# Altium schematic symbol library auto_threader_lib.SchLib: 22 symbols (part 1 of 2)
Pins are listed as number, name and electrical type; pins without a type are passive.

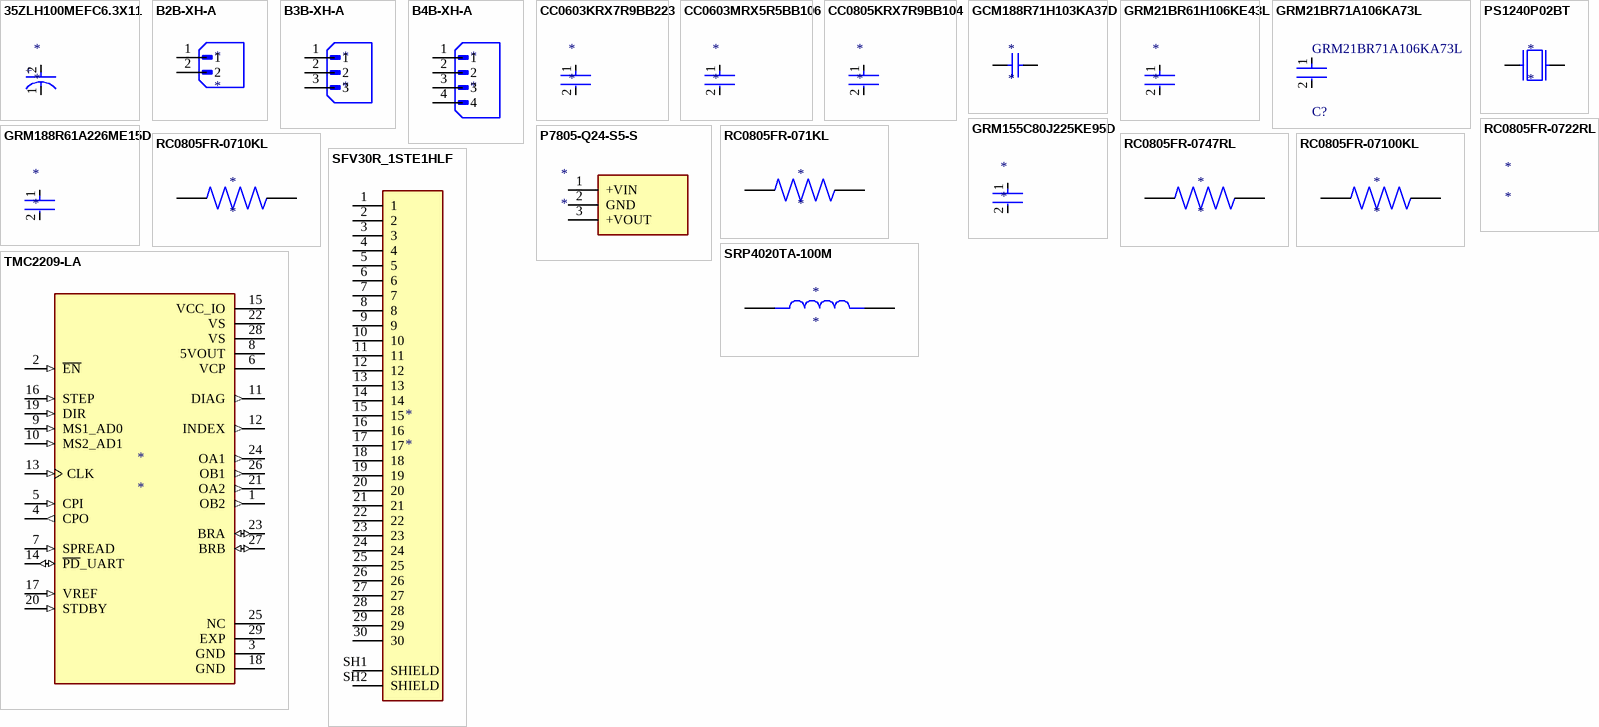
[diagram p0: symbols 35ZLH100MEFC6.3X11 to TMC2209-LA]

## 35ZLH100MEFC6.3X11
designator *
Aluminum Electrolytic Capacitors-DIP DIP, D6.3xL11mm 100μF ±20% 35V 94mΩ 540mA 6000Hrs@105℃; Manufacturer: Rubycon; Manufacturer Part Number: 35ZLH100MEFC6.3X11; Dielectric Material: Aluminium; Dissipation Factor: 12%; Lead Diameter: 500µm; Leakage Current: 35µA; Life (Hours): 6000hours; Ripple Current: 270mA; Supplier: DigiKey; Supplier Part Number: 1189-1300-ND; RoHS: Compliant; Category: Aluminum Electrolytic Capacitors; Stock: 118937; Pricing: 1=0.33, 10=0.203, 50=0.148, 100=0.1304, 500=0.09992, 2000=0.08229, 4000=0.07562, 6000=0.07225 (USD); Value: 100µF; Case/Package: Radial; Country of Origin: Japan; Diameter: 6.3mm; Export Control Classification Number (ECCN) Code: EAR99; Height: 12.5mm; Height - Seated (Max): 12.4968mm; Harmonized Tariff Schedule (HTS) Code: 8532.22.00.20; Impedance: 94mΩ; Introduction Date: 2010-09-20; Lead Pitch: 2.5mm; Length: 11mm; Lifecycle Status: Production; Max Operating Temperature: 105°C; Min Operating Temperature: -40°C; Mounting Technology: Through Hole; Pins: 2; Number of Terminals: 2; Packaging: Bulk; Radiation Hardening: No; REACH SVHC: Yes; Ripple Current (AC): 540mA; Schedule B: 8532220020, 8532220020|8532220020|8532220020|8532220020|8532220020|8532220020|8532220020|8532220020|8532220020|8532220020|8532220020|8532220020|8532220020|8532220020|8532220020|8532220020|8532220020|8532220020|8532220020|8532220020|8532220020|8532220020|8532220020|85; Terminal Pitch: 2.5mm; Termination: Radial; Tolerance: 20%; Voltage: 35V; Voltage Rating: 35V; Voltage Rating (AC): 35V; Voltage Rating (DC): 35V; ComponentLink1URL: https://datasheet.octopart.com:443/35ZLH100MEFC6.3X11-Rubycon-datasheet-181960486.pdf?src-supplier=IHS; ComponentLink1Description: https://datasheet.octopart.com:443/35ZLH100MEFC6.3X11-Rubycon-datasheet-181960486.pdf?src-supplier=IHS; ComponentLink2URL: https://datasheet.octopart.com:443/35ZLH100MEFC6.3X11-Rubycon-datasheet-12510202.pdf?src-supplier=LKR; ComponentLink2Description: https://datasheet.octopart.com:443/35ZLH100MEFC6.3X11-Rubycon-datasheet-12510202.pdf?src-supplier=LKR; ComponentLink3URL: https://datasheet.octopart.com:443/35ZLH100MEFC6.3X11-Rubycon-datasheet-154841597.pdf?src-supplier=JRH+Electronics; ComponentLink3Description: https://datasheet.octopart.com:443/35ZLH100MEFC6.3X11-Rubycon-datasheet-154841597.pdf?src-supplier=JRH+Electronics; ComponentLink4URL: https://datasheet.octopart.com:443/35ZLH100MEFC6.3X11-Rubycon-datasheet-66579747.pdf?src-supplier=Newark; ComponentLink4Description: https://datasheet.octopart.com:443/35ZLH100MEFC6.3X11-Rubycon-datasheet-66579747.pdf?src-supplier=Newark; ComponentLink5URL: https://datasheet.octopart.com:443/35ZLH100MEFC6.3X11-Rubycon-datasheet-41194731.pdf?src-supplier=Newark; ComponentLink5Description: https://datasheet.octopart.com:443/35ZLH100MEFC6.3X11-Rubycon-datasheet-41194731.pdf?src-supplier=Newark; ComponentLink6URL: https://datasheet.octopart.com:443/35ZLH100MEFC6.3X11-Rubycon-datasheet-10030022.pdf?src-supplier=element14+APAC; ComponentLink6Description: https://datasheet.octopart.com:443/35ZLH100MEFC6.3X11-Rubycon-datasheet-10030022.pdf?src-supplier=element14+APAC; ComponentLink7URL: https://datasheet.octopart.com:443/35ZLH100MEFC6.3X11-Rubycon-datasheet-8493648.pdf?src-supplier=element14+APAC; ComponentLink7Description: https://datasheet.octopart.com:443/35ZLH100MEFC6.3X11-Rubycon-datasheet-8493648.pdf?src-supplier=element14+APAC; ComponentLink8URL: https://datasheet.octopart.com:443/35ZLH100MEFC6.3X11-Rubycon-datasheet-7128063.pdf?src-supplier=element14+APAC; ComponentLink8Description: https://datasheet.octopart.com:443/35ZLH100MEFC6.3X11-Rubycon-datasheet-7128063.pdf?src-supplier=element14+APAC; ComponentLink9URL: https://datasheet.octopart.com:443/35ZLH100MEFC6.3X11-Rubycon-datasheet-86451566.pdf?src-supplier=Master+Electronics; ComponentLink9Description: https://datasheet.octopart.com:443/35ZLH100MEFC6.3X11-Rubycon-datasheet-86451566.pdf?src-supplier=Master+Electronics; Supplier 1: DigiKey; Supplier Part Number 1: 1189-1300-ND
footprint 35ZLH100MEFC6.3X11
pins: 1 C, 2 A
text: +

## B2B-XH-A
designator *
Supplier 1: DigiKey; Supplier Part Number 1: 455-B2B-XH-A-ND
footprint B2B-XH-A
pins: 1, 2

## B3B-XH-A
designator *
Board Connector, 3 Contact(s), 1 Row(s), Male, Straight, 0.098 inch Pitch, Solder Terminal; Manufacturer: JST; Manufacturer Part Number: B3B-XH-A; Contact Resistance: 20mΩ; Current Rating: 3A; Insulation Resistance: 1GΩ; Number of Contacts: 3; Voltage Rating: 250V; Supplier: DigiKey; Supplier Part Number: 455-2248-ND; RoHS: Compliant; Category: Card Edge Connectors; Stock: 22627; Pricing: 1=0.13, 10=0.108, 100=0.0915, 500=0.08162, 1000=0.07771, 5000=0.06936, 10000=0.06604 (USD); Color: White; Contact Material: Tin; Export Control Classification Number (ECCN) Code: EAR99; Gender: Male; Height: 7mm; Housing Material: Nylon; Harmonized Tariff Schedule (HTS) Code: 8536.69.40.40; Introduction Date: 1997-11-01; Lifecycle Status: Production; Max Operating Temperature: 85°C; Min Operating Temperature: -25°C; Pins: 3; Number of Positions: 3; Number of Rows: 1; Orientation: Straight; Terminal Pitch: 2.5mm; ComponentLink1URL: https://datasheet.octopart.com:443/B3B-XH-A-JST-datasheet-12510042.pdf?src-supplier=Upverter; ComponentLink1Description: https://datasheet.octopart.com:443/B3B-XH-A-JST-datasheet-12510042.pdf?src-supplier=Upverter; ComponentLink2URL: https://datasheet.octopart.com:443/B3B-XH-A-JST-datasheet-157850277.pdf?src-supplier=IHS; ComponentLink2Description: https://datasheet.octopart.com:443/B3B-XH-A-JST-datasheet-157850277.pdf?src-supplier=IHS; ComponentLink3URL: https://datasheet.octopart.com:443/B3B-XH-A-JST-datasheet-10026044.pdf?src-supplier=TME; ComponentLink3Description: https://datasheet.octopart.com:443/B3B-XH-A-JST-datasheet-10026044.pdf?src-supplier=TME; Supplier 1: DigiKey; Supplier Part Number 1: 455-2248-ND
footprint B3B-XH-A
pins: 1, 2, 3

## B4B-XH-A
designator *
Supplier 1: DigiKey; Supplier Part Number 1: 455-B4B-XH-A-ND
footprint B4B-XH-A
pins: 1, 2, 3, 4

## CC0603KRX7R9BB223
designator *
Surface Mount Ceramic Multilayer Capacitor 0.022uF 10% X7R 50V 0603 Paper T/R; Manufacturer: Yageo Group; Manufacturer Part Number: CC0603KRX7R9BB223; Value: 22nF; Insulation Resistance: 100GΩ; Supplier: DigiKey; Supplier Part Number: 311-1370-1-ND; RoHS: Compliant; Category: Ceramic Capacitors; Stock: 1263; Pricing: 1=0.1, 10=0.042, 50=0.0288, 100=0.0247, 500=0.01782, 1000=0.0157 (USD); Case/Package: 0603; Case Code (Imperial): 0603; Case Code (Metric): 1608; China RoHS: Compliant; Composition: Ceramic; Country of Origin: Mainland China, Taiwan; Depth: 800µm; Dielectric: X7R; Dielectric Material: Ceramic; Export Control Classification Number (ECCN) Code: EAR99; Halogen Free: Halogen Free; Height: 800µm; Harmonized Tariff Schedule (HTS) Code: 8532.24.00.20; Introduction Date: 2003-01-27; Lead Free: Lead Free; Length: 1.6mm; Lifecycle Status: Production; Material: Ceramic; Max Operating Temperature: 125°C; Min Operating Temperature: -55°C; Mounting Technology: Surface Mount; Pins: 2; Number of Terminals: 2; Packaging: Cut Tape (CT); Radiation Hardening: No; REACH SVHC: Yes; Schedule B: 8532240020, 8532240020|8532240020, 8532240020|8532240020|8532240020, 8532240020|8532240020|8532240020|8532240020; Termination: SMD/SMT; Thickness: 889µm; Tolerance: 10%; Voltage: 50V; Voltage Rating: 50V; Voltage Rating (AC): 50V; Voltage Rating (DC): 50V; Width: 800µm; ComponentLink1URL: https://datasheet.octopart.com:443/CC0603KRX7R9BB223-Yageo-datasheet-177165144.pdf?src-supplier=IHS; ComponentLink1Description: https://datasheet.octopart.com:443/CC0603KRX7R9BB223-Yageo-datasheet-177165144.pdf?src-supplier=IHS; ComponentLink2URL: https://datasheet.octopart.com/CC0603KRX7R9BB223-Yageo-datasheet-10883670.pdf; ComponentLink2Description: https://datasheet.octopart.com/CC0603KRX7R9BB223-Yageo-datasheet-10883670.pdf; ComponentLink3URL: https://datasheet.octopart.com:443/CC0603KRX7R9BB223-Yageo-datasheet-147453679.pdf?src-supplier=Newark; ComponentLink3Description: https://datasheet.octopart.com:443/CC0603KRX7R9BB223-Yageo-datasheet-147453679.pdf?src-supplier=Newark; ComponentLink4URL: https://datasheet.octopart.com:443/CC0603KRX7R9BB223-Yageo-datasheet-499490.pdf?src-supplier=Newark; ComponentLink4Description: https://datasheet.octopart.com:443/CC0603KRX7R9BB223-Yageo-datasheet-499490.pdf?src-supplier=Newark; ComponentLink5URL: https://datasheet.octopart.com:443/CC0603KRX7R9BB223-Yageo-datasheet-5301394.pdf?src-supplier=Newark; ComponentLink5Description: https://datasheet.octopart.com:443/CC0603KRX7R9BB223-Yageo-datasheet-5301394.pdf?src-supplier=Newark; ComponentLink6URL: https://sigma.octopart.com:443/147830939/technical_drawing/Yageo-CC0603KRX7R9BB223.pdf?src-supplier=Upverter; ComponentLink6Description: https://sigma.octopart.com:443/147830939/technical_drawing/Yageo-CC0603KRX7R9BB223.pdf?src-supplier=Upverter; ComponentLink7URL: https://datasheet.octopart.com:443/CC0603KRX7R9BB223-Yageo-datasheet-82288757.pdf?src-supplier=Upverter; ComponentLink7Description: https://datasheet.octopart.com:443/CC0603KRX7R9BB223-Yageo-datasheet-82288757.pdf?src-supplier=Upverter; ComponentLink8URL: https://datasheet.octopart.com:443/CC0603KRX7R9BB223-Yageo-datasheet-62139192.pdf?src-supplier=Upverter; ComponentLink8Description: https://datasheet.octopart.com:443/CC0603KRX7R9BB223-Yageo-datasheet-62139192.pdf?src-supplier=Upverter; ComponentLink9URL: https://datasheet.octopart.com:443/CC0603KRX7R9BB223-Yageo-Group-datasheet-189192896.pdf?src-supplier=Future+Electronics; ComponentLink9Description: https://datasheet.octopart.com:443/CC0603KRX7R9BB223-Yageo-Group-datasheet-189192896.pdf?src-supplier=Future+Electronics; ComponentLink10URL: https://datasheet.octopart.com:443/CC0603KRX7R9BB223-Yageo-datasheet-166511530.pdf?src-supplier=Future+Electronics; ComponentLink10Description: https://datasheet.octopart.com:443/CC0603KRX7R9BB223-Yageo-datasheet-166511530.pdf?src-supplier=Future+Electronics; ComponentLink11URL: https://datasheet.octopart.com:443/CC0603KRX7R9BB223-Yageo-datasheet-137700082.pdf?src-supplier=Future+Electronics; ComponentLink11Description: https://datasheet.octopart.com:443/CC0603KRX7R9BB223-Yageo-datasheet-137700082.pdf?src-supplier=Future+Electronics; ComponentLink12URL: https://datasheet.octopart.com:443/CC0603KRX7R9BB223-Yageo-datasheet-137700084.pdf?src-supplier=Future+Electronics; ComponentLink12Description: https://datasheet.octopart.com:443/CC0603KRX7R9BB223-Yageo-datasheet-137700084.pdf?src-supplier=Future+Electronics; ComponentLink13URL: https://datasheet.octopart.com:443/CC0603KRX7R9BB223-Yageo-datasheet-15895757.pdf?src-supplier=Future+Electronics; ComponentLink13Description: https://datasheet.octopart.com:443/CC0603KRX7R9BB223-Yageo-datasheet-15895757.pdf?src-supplier=Future+Electronics; ComponentLink14URL: https://datasheet.octopart.com:443/CC0603KRX7R9BB223-Yageo-datasheet-12526321.pdf?src-supplier=Future+Electronics; ComponentLink14Description: https://datasheet.octopart.com:443/CC0603KRX7R9BB223-Yageo-datasheet-12526321.pdf?src-supplier=Future+Electronics; ComponentLink15URL: https://datasheet.octopart.com:443/CC0603KRX7R9BB223-Yageo-datasheet-8324192.pdf?src-supplier=Future+Electronics; ComponentLink15Description: https://datasheet.octopart.com:443/CC0603KRX7R9BB223-Yageo-datasheet-8324192.pdf?src-supplier=Future+Electronics; ComponentLink16URL: https://datasheet.octopart.com:443/CC0603KRX7R9BB223-Yageo-datasheet-62336348.pdf?src-supplier=Farnell; ComponentLink16Description: https://datasheet.octopart.com:443/CC0603KRX7R9BB223-Yageo-datasheet-62336348.pdf?src-supplier=Farnell; ComponentLink17URL: https://datasheet.octopart.com:443/CC0603KRX7R9BB223-Yageo-datasheet-151948686.pdf?src-supplier=Farnell; ComponentLink17Description: https://datasheet.octopart.com:443/CC0603KRX7R9BB223-Yageo-datasheet-151948686.pdf?src-supplier=Farnell; ComponentLink18URL: https://datasheet.octopart.com:443/CC0603KRX7R9BB223-Yageo-datasheet-500777.pdf?src-supplier=Farnell; ComponentLink18Description: https://datasheet.octopart.com:443/CC0603KRX7R9BB223-Yageo-datasheet-500777.pdf?src-supplier=Farnell; ComponentLink19URL: https://datasheet.octopart.com:443/CC0603KRX7R9BB223-Yageo-datasheet-27626582.pdf?src-supplier=Seeed+Studio; ComponentLink19Description: https://datasheet.octopart.com:443/CC0603KRX7R9BB223-Yageo-datasheet-27626582.pdf?src-supplier=Seeed+Studio; ComponentLink20URL: https://datasheet.octopart.com:443/CC0603KRX7R9BB223-Yageo-datasheet-178019131.pdf?src-supplier=Burklin+Elektronik; ComponentLink20Description: https://datasheet.octopart.com:443/CC0603KRX7R9BB223-Yageo-datasheet-178019131.pdf?src-supplier=Burklin+Elektronik; ComponentLink21URL: https://datasheet.octopart.com:443/CC0603KRX7R9BB223-Yageo-Group-datasheet-165992755.pdf?src-supplier=ODG+(Origin+Data+Global); ComponentLink21Description: https://datasheet.octopart.com:443/CC0603KRX7R9BB223-Yageo-Group-datasheet-165992755.pdf?src-supplier=ODG+(Origin+Data+Global); ComponentLink22URL: https://datasheet.octopart.com:443/CC0603KRX7R9BB223-Yageo-datasheet-140260305.pdf?src-supplier=SOS+electronic; ComponentLink22Description: https://datasheet.octopart.com:443/CC0603KRX7R9BB223-Yageo-datasheet-140260305.pdf?src-supplier=SOS+electronic; ComponentLink23URL: https://datasheet.octopart.com:443/CC0603KRX7R9BB223-Yageo-datasheet-120101875.pdf?src-supplier=Megastar; ComponentLink23Description: https://datasheet.octopart.com:443/CC0603KRX7R9BB223-Yageo-datasheet-120101875.pdf?src-supplier=Megastar; ComponentLink24URL: https://datasheet.octopart.com:443/CC0603KRX7R9BB223-Yageo-datasheet-8701427.pdf?src-supplier=element14; ComponentLink24Description: https://datasheet.octopart.com:443/CC0603KRX7R9BB223-Yageo-datasheet-8701427.pdf?src-supplier=element14; ComponentLink25URL: https://datasheet.octopart.com:443/CC0603KRX7R9BB223-Yageo-datasheet-17600895.pdf?src-supplier=TME; ComponentLink25Description: https://datasheet.octopart.com:443/CC0603KRX7R9BB223-Yageo-datasheet-17600895.pdf?src-supplier=TME; ComponentLink26URL: http://sigma.octopart.com:80/conflict_mineral_statement/Yageo-company-3.pdf?src-supplier=Compliance+Statements; ComponentLink26Description: http://sigma.octopart.com:80/conflict_mineral_statement/Yageo-company-3.pdf?src-supplier=Compliance+Statements; ComponentLink27URL: http://sigma.octopart.com:80/rohs_statement/Yageo-company-2.pdf?src-supplier=Compliance+Statements; ComponentLink27Description: http://sigma.octopart.com:80/rohs_statement/Yageo-company-2.pdf?src-supplier=Compliance+Statements; Supplier 1: DigiKey; Supplier Part Number 1: 311-1370-1-ND
footprint CC0603KRX7R9BB223
pins: 1, 2

## CC0603MRX5R5BB106
designator *
6.3V 10uF X5R ±20% 0603 Multilayer Ceramic Capacitors MLCC - SMD/SMT ROHS; Manufacturer: Yageo Group; Manufacturer Part Number: CC0603MRX5R5BB106; Value: 10µF; Dissipation Factor: 10%; Supplier: DigiKey; Supplier Part Number: 311-1448-1-ND; RoHS: Compliant; Category: Ceramic Capacitors; Stock: 83902; Pricing: 1=0.3, 10=0.173, 50=0.1242, 100=0.1092, 500=0.08406 (USD); Case/Package: 0603; Case Code (Imperial): 0603; Case Code (Metric): 1608; China RoHS: Compliant; Composition: Ceramic; Country of Origin: Mainland China, Taiwan; Depth: 800µm; Dielectric: X5R; Dielectric Material: Ceramic; Export Control Classification Number (ECCN) Code: EAR99; Halogen Free: Halogen Free; Height: 800µm; Harmonized Tariff Schedule (HTS) Code: 8532.24.00.20; Introduction Date: 2009-11-02; Lead Free: Lead Free; Length: 1.6mm; Lifecycle Status: Production; Material: Ceramic; Max Operating Temperature: 85°C; Min Operating Temperature: -55°C; Mounting Technology: Surface Mount; Pins: 2; Number of Terminals: 2; Radiation Hardening: No; REACH SVHC: Yes; Schedule B: 8532240020, 8532240020|8532240020|8532240020|8532240020|8532240020|8532240020|8532240020|8532240020|8532240020|8532240020|8532240020|8532240020|8532240020, 8532240020|8532240020|8532240020|8532240020|8532240020|8532240020|8532240020|8532240020|8532240020|8532240020|8532240020|8532240020|8532240020|8532240020, 8532240020|8532240020|8532240020|8532240020|8532240020|8532240020|8532240020|8532240020|8532240020|8532240020|8532240020|8532240020|8532240020|8532240020|8532240020; Termination: SMD/SMT; Thickness: 990.6µm; Tolerance: 20%; Voltage Rating: 6.3V; Voltage Rating (DC): 6.3V; Width: 800µm; ComponentLink1URL: https://datasheet.octopart.com:443/CC0603MRX5R5BB106-Yageo-datasheet-170350636.pdf?src-supplier=IHS; ComponentLink1Description: https://datasheet.octopart.com:443/CC0603MRX5R5BB106-Yageo-datasheet-170350636.pdf?src-supplier=IHS; ComponentLink2URL: https://datasheet.octopart.com:443/CC0603MRX5R5BB106-Yageo-datasheet-145016144.pdf?src-supplier=ODG+(Origin+Data+Global); ComponentLink2Description: https://datasheet.octopart.com:443/CC0603MRX5R5BB106-Yageo-datasheet-145016144.pdf?src-supplier=ODG+(Origin+Data+Global); ComponentLink3URL: https://sigma.octopart.com:443/147830939/technical_drawing/Yageo-CC0603MRX5R5BB106.pdf?src-supplier=Upverter; ComponentLink3Description: https://sigma.octopart.com:443/147830939/technical_drawing/Yageo-CC0603MRX5R5BB106.pdf?src-supplier=Upverter; ComponentLink4URL: https://datasheet.octopart.com:443/CC0603MRX5R5BB106-Yageo-datasheet-8324442.pdf?src-supplier=element14+APAC; ComponentLink4Description: https://datasheet.octopart.com:443/CC0603MRX5R5BB106-Yageo-datasheet-8324442.pdf?src-supplier=element14+APAC; ComponentLink5URL: https://datasheet.octopart.com:443/CC0603MRX5R5BB106-Yageo-datasheet-10911834.pdf?src-supplier=Farnell; ComponentLink5Description: https://datasheet.octopart.com:443/CC0603MRX5R5BB106-Yageo-datasheet-10911834.pdf?src-supplier=Farnell; ComponentLink6URL: https://datasheet.octopart.com:443/CC0603MRX5R5BB106-Yageo-datasheet-181968799.pdf?src-supplier=Farnell; ComponentLink6Description: https://datasheet.octopart.com:443/CC0603MRX5R5BB106-Yageo-datasheet-181968799.pdf?src-supplier=Farnell; ComponentLink7URL: https://datasheet.octopart.com:443/CC0603MRX5R5BB106-Yageo-Group-datasheet-184398209.pdf?src-supplier=Farnell; ComponentLink7Description: https://datasheet.octopart.com:443/CC0603MRX5R5BB106-Yageo-Group-datasheet-184398209.pdf?src-supplier=Farnell; ComponentLink8URL: https://datasheet.octopart.com:443/CC0603MRX5R5BB106-Yageo-datasheet-519481.pdf?src-supplier=Newark; ComponentLink8Description: https://datasheet.octopart.com:443/CC0603MRX5R5BB106-Yageo-datasheet-519481.pdf?src-supplier=Newark; ComponentLink9URL: https://datasheet.octopart.com:443/CC0603MRX5R5BB106-Yageo-datasheet-62067349.pdf?src-supplier=Newark; ComponentLink9Description: https://datasheet.octopart.com:443/CC0603MRX5R5BB106-Yageo-datasheet-62067349.pdf?src-supplier=Newark; ComponentLink10URL: https://datasheet.octopart.com:443/CC0603MRX5R5BB106-Yageo-datasheet-158238148.pdf?src-supplier=Newark; ComponentLink10Description: https://datasheet.octopart.com:443/CC0603MRX5R5BB106-Yageo-datasheet-158238148.pdf?src-supplier=Newark; ComponentLink11URL: https://datasheet.octopart.com:443/CC0603MRX5R5BB106-Yageo-datasheet-184398205.pdf?src-supplier=Newark; ComponentLink11Description: https://datasheet.octopart.com:443/CC0603MRX5R5BB106-Yageo-datasheet-184398205.pdf?src-supplier=Newark; ComponentLink12URL: https://datasheet.octopart.com/CC0603MRX5R5BB106-Yageo-datasheet-86397281.pdf; ComponentLink12Description: https://datasheet.octopart.com/CC0603MRX5R5BB106-Yageo-datasheet-86397281.pdf; ComponentLink13URL: https://datasheet.octopart.com:443/CC0603MRX5R5BB106-Yageo-datasheet-149070021.pdf?src-supplier=TME; ComponentLink13Description: https://datasheet.octopart.com:443/CC0603MRX5R5BB106-Yageo-datasheet-149070021.pdf?src-supplier=TME; ComponentLink14URL: https://datasheet.octopart.com:443/CC0603MRX5R5BB106-Yageo-datasheet-137875056.pdf?src-supplier=Future+Electronics; ComponentLink14Description: https://datasheet.octopart.com:443/CC0603MRX5R5BB106-Yageo-datasheet-137875056.pdf?src-supplier=Future+Electronics; ComponentLink15URL: https://datasheet.octopart.com:443/CC0603MRX5R5BB106-Yageo-datasheet-137700082.pdf?src-supplier=Future+Electronics; ComponentLink15Description: https://datasheet.octopart.com:443/CC0603MRX5R5BB106-Yageo-datasheet-137700082.pdf?src-supplier=Future+Electronics; ComponentLink16URL: https://datasheet.octopart.com:443/CC0603MRX5R5BB106-Yageo-datasheet-59875459.pdf?src-supplier=Future+Electronics; ComponentLink16Description: https://datasheet.octopart.com:443/CC0603MRX5R5BB106-Yageo-datasheet-59875459.pdf?src-supplier=Future+Electronics; ComponentLink17URL: https://datasheet.octopart.com:443/CC0603MRX5R5BB106-Yageo-datasheet-27626583.pdf?src-supplier=Future+Electronics; ComponentLink17Description: https://datasheet.octopart.com:443/CC0603MRX5R5BB106-Yageo-datasheet-27626583.pdf?src-supplier=Future+Electronics; ComponentLink18URL: https://datasheet.octopart.com:443/CC0603MRX5R5BB106-Yageo-datasheet-15895757.pdf?src-supplier=Future+Electronics; ComponentLink18Description: https://datasheet.octopart.com:443/CC0603MRX5R5BB106-Yageo-datasheet-15895757.pdf?src-supplier=Future+Electronics; ComponentLink19URL: https://datasheet.octopart.com:443/CC0603MRX5R5BB106-Yageo-datasheet-14389981.pdf?src-supplier=Future+Electronics; ComponentLink19Description: https://datasheet.octopart.com:443/CC0603MRX5R5BB106-Yageo-datasheet-14389981.pdf?src-supplier=Future+Electronics; ComponentLink20URL: https://datasheet.octopart.com:443/CC0603MRX5R5BB106-Yageo-Group-datasheet-192360830.pdf?src-supplier=Future+Electronics; ComponentLink20Description: https://datasheet.octopart.com:443/CC0603MRX5R5BB106-Yageo-Group-datasheet-192360830.pdf?src-supplier=Future+Electronics; ComponentLink21URL: https://datasheet.octopart.com:443/CC0603MRX5R5BB106-Yageo-datasheet-8701639.pdf?src-supplier=element14; ComponentLink21Description: https://datasheet.octopart.com:443/CC0603MRX5R5BB106-Yageo-datasheet-8701639.pdf?src-supplier=element14; ComponentLink22URL: http://sigma.octopart.com:80/conflict_mineral_statement/Yageo-company-3.pdf?src-supplier=Compliance+Statements; ComponentLink22Description: http://sigma.octopart.com:80/conflict_mineral_statement/Yageo-company-3.pdf?src-supplier=Compliance+Statements; ComponentLink23URL: http://sigma.octopart.com:80/rohs_statement/Yageo-company-2.pdf?src-supplier=Compliance+Statements; ComponentLink23Description: http://sigma.octopart.com:80/rohs_statement/Yageo-company-2.pdf?src-supplier=Compliance+Statements; Supplier 1: DigiKey; Supplier Part Number 1: 311-1448-1-ND
footprint CC0603MRX5R5BB106
pins: 1, 2

## CC0805KRX7R9BB104
designator *
50V 100nF X7R ±10% 0805 Multilayer Ceramic Capacitors MLCC - SMD/SMT ROHS; Manufacturer: Yageo Group; Manufacturer Part Number: CC0805KRX7R9BB104; Manufacturer Package Identifier: CC0805-0.85; Insulation Resistance: 100GΩ; Supplier: DigiKey; Supplier Part Number: 311-1140-1-ND; RoHS: Compliant; Category: Ceramic Capacitors; Stock: 986511; Pricing: 1=0.11, 10=0.06, 50=0.0412, 100=0.0356, 500=0.02612, 1000=0.02323 (USD); Value: 100nF; Case/Package: 0805; Case Code (Imperial): 0805; Case Code (Metric): 2012; China RoHS: Compliant; Country of Origin: Mainland China, Taiwan; Depth: 1.25mm; Dielectric: X7R; Dielectric Material: Ceramic; Export Control Classification Number (ECCN) Code: EAR99; Halogen Free: Halogen Free; Height: 850µm; Harmonized Tariff Schedule (HTS) Code: 8532.24.00.20; Introduction Date: 2003-01-27; Lead Free: Lead Free; Length: 2mm; Lifecycle Status: Production; Material: Ceramic; Max Operating Temperature: 125°C; Min Operating Temperature: -55°C; Mounting Technology: Surface Mount; Pins: 2; Number of Terminals: 2; Packaging: Cut Tape; Radiation Hardening: No; REACH SVHC: Yes; Schedule B: 8532240020, 8532240020|8532240020|8532240020|8532240020|8532240020|8532240020|8532240020|8532240020|8532240020|8532240020|8532240020|8532240020|8532240020|8532240020|8532240020|8532240020, 8532240020|8532240020|8532240020|8532240020|8532240020|8532240020|8532240020|8532240020|8532240020|8532240020|8532240020|8532240020|8532240020|8532240020|8532240020|8532240020|8532240020, 8532240020|8532240020|8532240020|8532240020|8532240020|8532240020|8532240020|8532240020|8532240020|8532240020|8532240020|8532240020|8532240020|8532240020|8532240020|8532240020|8532240020|8532240020; Termination: SMD/SMT; Thickness: 838.2µm; Tolerance: 10%; Voltage: 50V; Voltage Rating: 50V; Voltage Rating (DC): 50V; Width: 1.25mm; ComponentLink1URL: https://datasheet.octopart.com:443/CC0805KRX7R9BB104-Yageo-datasheet-177165144.pdf?src-supplier=IHS; ComponentLink1Description: https://datasheet.octopart.com:443/CC0805KRX7R9BB104-Yageo-datasheet-177165144.pdf?src-supplier=IHS; ComponentLink2URL: https://datasheet.octopart.com:443/CC0805KRX7R9BB104-Yageo-datasheet-78855689.pdf?src-supplier=Upverter; ComponentLink2Description: https://datasheet.octopart.com:443/CC0805KRX7R9BB104-Yageo-datasheet-78855689.pdf?src-supplier=Upverter; ComponentLink3URL: https://datasheet.octopart.com:443/CC0805KRX7R9BB104-Yageo-datasheet-68298032.pdf?src-supplier=Upverter; ComponentLink3Description: https://datasheet.octopart.com:443/CC0805KRX7R9BB104-Yageo-datasheet-68298032.pdf?src-supplier=Upverter; ComponentLink4URL: https://datasheet.octopart.com:443/CC0805KRX7R9BB104-Yageo-Group-datasheet-189192896.pdf?src-supplier=Future+Electronics; ComponentLink4Description: https://datasheet.octopart.com:443/CC0805KRX7R9BB104-Yageo-Group-datasheet-189192896.pdf?src-supplier=Future+Electronics; ComponentLink5URL: https://datasheet.octopart.com:443/CC0805KRX7R9BB104-Yageo-datasheet-166511530.pdf?src-supplier=Future+Electronics; ComponentLink5Description: https://datasheet.octopart.com:443/CC0805KRX7R9BB104-Yageo-datasheet-166511530.pdf?src-supplier=Future+Electronics; ComponentLink6URL: https://datasheet.octopart.com:443/CC0805KRX7R9BB104-Yageo-datasheet-137700082.pdf?src-supplier=Future+Electronics; ComponentLink6Description: https://datasheet.octopart.com:443/CC0805KRX7R9BB104-Yageo-datasheet-137700082.pdf?src-supplier=Future+Electronics; ComponentLink7URL: https://datasheet.octopart.com:443/CC0805KRX7R9BB104-Yageo-datasheet-137700084.pdf?src-supplier=Future+Electronics; ComponentLink7Description: https://datasheet.octopart.com:443/CC0805KRX7R9BB104-Yageo-datasheet-137700084.pdf?src-supplier=Future+Electronics; ComponentLink8URL: https://datasheet.octopart.com:443/CC0805KRX7R9BB104-Yageo-datasheet-82288757.pdf?src-supplier=Future+Electronics; ComponentLink8Description: https://datasheet.octopart.com:443/CC0805KRX7R9BB104-Yageo-datasheet-82288757.pdf?src-supplier=Future+Electronics; ComponentLink9URL: https://datasheet.octopart.com:443/CC0805KRX7R9BB104-Yageo-datasheet-62139192.pdf?src-supplier=Future+Electronics; ComponentLink9Description: https://datasheet.octopart.com:443/CC0805KRX7R9BB104-Yageo-datasheet-62139192.pdf?src-supplier=Future+Electronics; ComponentLink10URL: https://datasheet.octopart.com:443/CC0805KRX7R9BB104-Yageo-datasheet-27626582.pdf?src-supplier=Future+Electronics; ComponentLink10Description: https://datasheet.octopart.com:443/CC0805KRX7R9BB104-Yageo-datasheet-27626582.pdf?src-supplier=Future+Electronics; ComponentLink11URL: https://datasheet.octopart.com:443/CC0805KRX7R9BB104-Yageo-datasheet-15895757.pdf?src-supplier=Future+Electronics; ComponentLink11Description: https://datasheet.octopart.com:443/CC0805KRX7R9BB104-Yageo-datasheet-15895757.pdf?src-supplier=Future+Electronics; ComponentLink12URL: https://datasheet.octopart.com:443/CC0805KRX7R9BB104-Yageo-datasheet-12526321.pdf?src-supplier=Future+Electronics; ComponentLink12Description: https://datasheet.octopart.com:443/CC0805KRX7R9BB104-Yageo-datasheet-12526321.pdf?src-supplier=Future+Electronics; ComponentLink13URL: https://datasheet.octopart.com:443/CC0805KRX7R9BB104-Yageo-datasheet-8324192.pdf?src-supplier=Future+Electronics; ComponentLink13Description: https://datasheet.octopart.com:443/CC0805KRX7R9BB104-Yageo-datasheet-8324192.pdf?src-supplier=Future+Electronics; ComponentLink14URL: https://datasheet.octopart.com/CC0805KRX7R9BB104-Yageo-datasheet-10883670.pdf; ComponentLink14Description: https://datasheet.octopart.com/CC0805KRX7R9BB104-Yageo-datasheet-10883670.pdf; ComponentLink15URL: https://datasheet.octopart.com:443/CC0805KRX7R9BB104-Yageo-datasheet-62336348.pdf?src-supplier=Newark; ComponentLink15Description: https://datasheet.octopart.com:443/CC0805KRX7R9BB104-Yageo-datasheet-62336348.pdf?src-supplier=Newark; ComponentLink16URL: https://datasheet.octopart.com:443/CC0805KRX7R9BB104-Yageo-datasheet-181969852.pdf?src-supplier=Newark; ComponentLink16Description: https://datasheet.octopart.com:443/CC0805KRX7R9BB104-Yageo-datasheet-181969852.pdf?src-supplier=Newark; ComponentLink17URL: https://datasheet.octopart.com:443/CC0805KRX7R9BB104-Yageo-datasheet-181969851.pdf?src-supplier=Newark; ComponentLink17Description: https://datasheet.octopart.com:443/CC0805KRX7R9BB104-Yageo-datasheet-181969851.pdf?src-supplier=Newark; ComponentLink18URL: https://datasheet.octopart.com:443/CC0805KRX7R9BB104-Phycomp-datasheet-499490.pdf?src-supplier=Newark; ComponentLink18Description: https://datasheet.octopart.com:443/CC0805KRX7R9BB104-Phycomp-datasheet-499490.pdf?src-supplier=Newark; ComponentLink19URL: https://datasheet.octopart.com:443/CC0805KRX7R9BB104-Yageo-datasheet-147453679.pdf?src-supplier=element14+APAC; ComponentLink19Description: https://datasheet.octopart.com:443/CC0805KRX7R9BB104-Yageo-datasheet-147453679.pdf?src-supplier=element14+APAC; ComponentLink20URL: https://datasheet.octopart.com:443/CC0805KRX7R9BB104-Yageo-datasheet-151948686.pdf?src-supplier=Farnell; ComponentLink20Description: https://datasheet.octopart.com:443/CC0805KRX7R9BB104-Yageo-datasheet-151948686.pdf?src-supplier=Farnell; ComponentLink21URL: https://datasheet.octopart.com:443/CC0805KRX7R9BB104-Yageo-Group-datasheet-188689702.pdf?src-supplier=Farnell; ComponentLink21Description: https://datasheet.octopart.com:443/CC0805KRX7R9BB104-Yageo-Group-datasheet-188689702.pdf?src-supplier=Farnell; ComponentLink22URL: https://datasheet.octopart.com:443/CC0805KRX7R9BB104-Phycomp-datasheet-500777.pdf?src-supplier=Farnell; ComponentLink22Description: https://datasheet.octopart.com:443/CC0805KRX7R9BB104-Phycomp-datasheet-500777.pdf?src-supplier=Farnell; ComponentLink23URL: https://datasheet.octopart.com:443/CC0805KRX7R9BB104-Yageo-Group-datasheet-165992755.pdf?src-supplier=ODG+(Origin+Data+Global); ComponentLink23Description: https://datasheet.octopart.com:443/CC0805KRX7R9BB104-Yageo-Group-datasheet-165992755.pdf?src-supplier=ODG+(Origin+Data+Global); ComponentLink24URL: https://datasheet.octopart.com:443/CC0805KRX7R9BB104-Yageo-datasheet-140260305.pdf?src-supplier=SOS+electronic; ComponentLink24Description: https://datasheet.octopart.com:443/CC0805KRX7R9BB104-Yageo-datasheet-140260305.pdf?src-supplier=SOS+electronic; ComponentLink25URL: https://datasheet.octopart.com:443/CC0805KRX7R9BB104-Yageo-datasheet-120101875.pdf?src-supplier=Megastar; ComponentLink25Description: https://datasheet.octopart.com:443/CC0805KRX7R9BB104-Yageo-datasheet-120101875.pdf?src-supplier=Megastar; ComponentLink26URL: https://datasheet.octopart.com:443/CC0805KRX7R9BB104-Yageo-datasheet-8701427.pdf?src-supplier=element14; ComponentLink26Description: https://datasheet.octopart.com:443/CC0805KRX7R9BB104-Yageo-datasheet-8701427.pdf?src-supplier=element14; ComponentLink27URL: https://datasheet.octopart.com:443/CC0805KRX7R9BB104-Yageo-datasheet-5301394.pdf?src-supplier=element14; ComponentLink27Description: https://datasheet.octopart.com:443/CC0805KRX7R9BB104-Yageo-datasheet-5301394.pdf?src-supplier=element14; ComponentLink28URL: https://datasheet.octopart.com:443/CC0805KRX7R9BB104-Yageo-datasheet-17600895.pdf?src-supplier=TME; ComponentLink28Description: https://datasheet.octopart.com:443/CC0805KRX7R9BB104-Yageo-datasheet-17600895.pdf?src-supplier=TME; ComponentLink29URL: https://datasheet.octopart.com:443/CC0805KRX7R9BB104-Yageo-datasheet-118396.pdf?src-supplier=DigiKey; ComponentLink29Description: https://datasheet.octopart.com:443/CC0805KRX7R9BB104-Yageo-datasheet-118396.pdf?src-supplier=DigiKey; ComponentLink30URL: http://sigma.octopart.com:80/conflict_mineral_statement/Yageo-company-3.pdf?src-supplier=Compliance+Statements; ComponentLink30Description: http://sigma.octopart.com:80/conflict_mineral_statement/Yageo-company-3.pdf?src-supplier=Compliance+Statements; ComponentLink31URL: http://sigma.octopart.com:80/rohs_statement/Yageo-company-2.pdf?src-supplier=Compliance+Statements; ComponentLink31Description: http://sigma.octopart.com:80/rohs_statement/Yageo-company-2.pdf?src-supplier=Compliance+Statements; Supplier 1: DigiKey; Supplier Part Number 1: 311-1140-1-ND
footprint CC0805KRX7R9BB104
pins: 1, 2

## GCM188R71H103KA37D
designator *
50V 10nF X7R ±10% 0603 Multilayer Ceramic Capacitors MLCC - SMD/SMT ROHS; Manufacturer: Murata; Manufacturer Part Number: GCM188R71H103KA37D; Manufacturer Lifecycle Status: NRND; Supplier: DigiKey; Supplier Part Number: 490-4778-1-ND; RoHS: Compliant; Category: Ceramic Capacitors; Stock: 5464610; Pricing: 1=0.12, 10=0.065, 50=0.045, 100=0.0389, 500=0.02872, 1000=0.02559 (USD); Value: 10nF; Case/Package: 0603; Case Code (Imperial): 0603; Case Code (Metric): 1608; Country of Origin: Philippines; Depth: 800µm; Dielectric: X7R; Dielectric Material: Ceramic; Export Control Classification Number (ECCN) Code: EAR99; Height: 800µm; Harmonized Tariff Schedule (HTS) Code: 8532.24.00.20; Introduction Date: 2007-06-21; Lead Free: Lead Free; Length: 1.6mm; Lifecycle Status: NRND; Max Operating Temperature: 125°C; Min Operating Temperature: -55°C; Mounting Technology: Surface Mount; Number of Terminals: 2; Packaging: Cut Tape; Radiation Hardening: No; Ratings: AEC-Q200; REACH SVHC: Yes; Schedule B: 8532240020, 8532240020|8532240020, 8532240020|8532240020|8532240020, 8532240020|8532240020|8532240020|8532240020; Termination: SMD/SMT; Tolerance: 10%; Voltage: 50V; Voltage Rating: 50V; Voltage Rating (DC): 50V; Width: 800µm; ComponentLink1URL: https://datasheet.octopart.com:443/GCM188R71H103KA37D-Murata-datasheet-39128445.pdf?src-supplier=Newark; ComponentLink1Description: https://datasheet.octopart.com:443/GCM188R71H103KA37D-Murata-datasheet-39128445.pdf?src-supplier=Newark; ComponentLink2URL: https://datasheet.octopart.com:443/GCM188R71H103KA37D-Murata-datasheet-62316953.pdf?src-supplier=element14+APAC; ComponentLink2Description: https://datasheet.octopart.com:443/GCM188R71H103KA37D-Murata-datasheet-62316953.pdf?src-supplier=element14+APAC; ComponentLink3URL: https://datasheet.octopart.com:443/GCM188R71H103KA37D-Murata-datasheet-8332723.pdf?src-supplier=_legacy+Avnet; ComponentLink3Description: https://datasheet.octopart.com:443/GCM188R71H103KA37D-Murata-datasheet-8332723.pdf?src-supplier=_legacy+Avnet; ComponentLink4URL: https://datasheet.octopart.com:443/GCM188R71H103KA37D-Murata-datasheet-14404452.pdf?src-supplier=Future+Electronics; ComponentLink4Description: https://datasheet.octopart.com:443/GCM188R71H103KA37D-Murata-datasheet-14404452.pdf?src-supplier=Future+Electronics; ComponentLink5URL: https://datasheet.octopart.com:443/GCM188R71H103KA37D-Murata-datasheet-12532847.pdf?src-supplier=Future+Electronics; ComponentLink5Description: https://datasheet.octopart.com:443/GCM188R71H103KA37D-Murata-datasheet-12532847.pdf?src-supplier=Future+Electronics; ComponentLink6URL: https://datasheet.octopart.com:443/GCM188R71H103KA37D-Murata-datasheet-41571772.pdf?src-supplier=Future+Electronics; ComponentLink6Description: https://datasheet.octopart.com:443/GCM188R71H103KA37D-Murata-datasheet-41571772.pdf?src-supplier=Future+Electronics; ComponentLink7URL: https://datasheet.octopart.com:443/GCM188R71H103KA37D-Murata-datasheet-165579661.pdf?src-supplier=TME; ComponentLink7Description: https://datasheet.octopart.com:443/GCM188R71H103KA37D-Murata-datasheet-165579661.pdf?src-supplier=TME; ComponentLink8URL: https://datasheet.octopart.com:443/GCM188R71H103KA37D-Murata-datasheet-62117434.pdf?src-supplier=TME; ComponentLink8Description: https://datasheet.octopart.com:443/GCM188R71H103KA37D-Murata-datasheet-62117434.pdf?src-supplier=TME; ComponentLink9URL: https://datasheet.octopart.com:443/GCM188R71H103KA37D-Murata-datasheet-140658743.pdf?src-supplier=Ciiva; ComponentLink9Description: https://datasheet.octopart.com:443/GCM188R71H103KA37D-Murata-datasheet-140658743.pdf?src-supplier=Ciiva; ComponentLink10URL: https://datasheet.octopart.com:443/GCM188R71H103KA37D-Murata-datasheet-138718308.pdf?src-supplier=Ciiva; ComponentLink10Description: https://datasheet.octopart.com:443/GCM188R71H103KA37D-Murata-datasheet-138718308.pdf?src-supplier=Ciiva; ComponentLink11URL: https://datasheet.octopart.com:443/GCM188R71H103KA37D-Murata-datasheet-11836845.pdf?src-supplier=Arrow+Electronics; ComponentLink11Description: https://datasheet.octopart.com:443/GCM188R71H103KA37D-Murata-datasheet-11836845.pdf?src-supplier=Arrow+Electronics; ComponentLink12URL: http://sigma.octopart.com:80/reach_statement/Murata-company-16.pdf?src-supplier=Compliance+Statements; ComponentLink12Description: http://sigma.octopart.com:80/reach_statement/Murata-company-16.pdf?src-supplier=Compliance+Statements; Supplier 1: DigiKey; Supplier Part Number 1: 490-4778-1-ND
footprint GCM188R71H103KA37D
pins: 1, 2

## GRM21BR61H106KE43L
designator *
50V 10uF X5R ±10% 0805 Multilayer Ceramic Capacitors MLCC - SMD/SMT ROHS; Manufacturer: Murata; Manufacturer Part Number: GRM21BR61H106KE43L; Manufacturer Lifecycle Status: IN PRODUCTION; Value: 10µF; Supplier: DigiKey; Supplier Part Number: 490-18663-1-ND; RoHS: Compliant; Category: Ceramic Capacitors; Stock: 1260835; Pricing: 1=0.31, 10=0.183, 50=0.133, 100=0.1177, 500=0.09208, 1000=0.08416 (USD); Case/Package: 0805; Country of Origin: Japan, Mainland China, Philippines, Singapore, Thailand; Dielectric: X5R; Dielectric Material: Ceramic; Export Control Classification Number (ECCN) Code: EAR99; Height: 1.25mm; Harmonized Tariff Schedule (HTS) Code: 8532.24.00.20; Introduction Date: 2018-09-13; Length: 2mm; Lifecycle Status: Production; Material: Ceramic; Max Operating Temperature: 85°C; Min Operating Temperature: -55°C; Mounting Technology: Surface Mount; Number of Terminals: 2; REACH SVHC: Yes; Thickness: 1.25mm; Tolerance: 10%; Voltage Rating: 50V; Voltage Rating (DC): 50V; Width: 1.25mm; ComponentLink1URL: https://datasheet.octopart.com:443/GRM21BR61H106KE43L-Murata-datasheet-155345082.pdf?src-supplier=Newark; ComponentLink1Description: https://datasheet.octopart.com:443/GRM21BR61H106KE43L-Murata-datasheet-155345082.pdf?src-supplier=Newark; ComponentLink2URL: https://datasheet.octopart.com:443/GRM21BR61H106KE43L-Murata-datasheet-141278272.pdf?src-supplier=Geoflip; ComponentLink2Description: https://datasheet.octopart.com:443/GRM21BR61H106KE43L-Murata-datasheet-141278272.pdf?src-supplier=Geoflip; ComponentLink3URL: https://datasheet.octopart.com:443/GRM21BR61H106KE43L-Murata-datasheet-165579666.pdf?src-supplier=TME; ComponentLink3Description: https://datasheet.octopart.com:443/GRM21BR61H106KE43L-Murata-datasheet-165579666.pdf?src-supplier=TME; ComponentLink4URL: https://datasheet.octopart.com:443/GRM21BR61H106KE43L-Murata-datasheet-140707579.pdf?src-supplier=Ciiva; ComponentLink4Description: https://datasheet.octopart.com:443/GRM21BR61H106KE43L-Murata-datasheet-140707579.pdf?src-supplier=Ciiva; ComponentLink5URL: https://datasheet.octopart.com:443/GRM21BR61H106KE43L-Murata-datasheet-138744880.pdf?src-supplier=Ciiva; ComponentLink5Description: https://datasheet.octopart.com:443/GRM21BR61H106KE43L-Murata-datasheet-138744880.pdf?src-supplier=Ciiva; ComponentLink6URL: https://datasheet.octopart.com/GRM21BR61H106KE43L-Murata-datasheet-12515295.pdf; ComponentLink6Description: https://datasheet.octopart.com/GRM21BR61H106KE43L-Murata-datasheet-12515295.pdf; ComponentLink7URL: https://datasheet.octopart.com/GRM21BR61H106KE43L-Murata-datasheet-12510076.pdf; ComponentLink7Description: https://datasheet.octopart.com/GRM21BR61H106KE43L-Murata-datasheet-12510076.pdf; ComponentLink8URL: https://datasheet.octopart.com/GRM21BR61H106KE43L-Murata-datasheet-11978611.pdf; ComponentLink8Description: https://datasheet.octopart.com/GRM21BR61H106KE43L-Murata-datasheet-11978611.pdf; ComponentLink9URL: https://datasheet.octopart.com/GRM21BR61H106KE43L-Murata-datasheet-10025737.pdf; ComponentLink9Description: https://datasheet.octopart.com/GRM21BR61H106KE43L-Murata-datasheet-10025737.pdf; ComponentLink10URL: https://datasheet.octopart.com/GRM21BR61H106KE43L-Murata-datasheet-8819587.pdf; ComponentLink10Description: https://datasheet.octopart.com/GRM21BR61H106KE43L-Murata-datasheet-8819587.pdf; ComponentLink11URL: http://sigma.octopart.com:80/reach_statement/Murata-company-16.pdf?src-supplier=Compliance+Statements; ComponentLink11Description: http://sigma.octopart.com:80/reach_statement/Murata-company-16.pdf?src-supplier=Compliance+Statements; Supplier 1: DigiKey; Supplier Part Number 1: 490-18663-1-ND
footprint GRM21BR61H106KE43L
pins: 1, 2

## GRM21BR71A106KA73L
designator C?
Chip Multilayer Ceramic Capacitors for General Purpose, 0805, 10uF, X7R, 15%, 10%, 10V; Length: 2mm; Case Code (Metric): 2012; Height: 1.25mm; Tolerance: 10%; Width: 1.25mm; Voltage Rating: 10V; Voltage Rating (DC): 10V; Case/Package: 0805; Package Quantity: 3000; Capacitance: 10uF; REACH SVHC: No SVHC; Case Code (Imperial): 0805; Min Operating Temperature: -55°C; Termination: SMD/SMT; Depth: 1.25mm; Mount: Surface Mount; Thickness: 0.055inch; Max Operating Temperature: 125°C; Weight: 0.000335oz; Dielectric: X7R; Packaging: Tape and Reel; Supplier 1: DigiKey; Supplier Part Number 1: 490-10516-1-ND
footprint GRM21BR71A106KA73L
pins: 1, 2

## GRM155C80J225KE95D
designator *
6.3V 2.2uF X6S ±10% 0402 Multilayer Ceramic Capacitors MLCC - SMD/SMT ROHS; Manufacturer: Murata; Manufacturer Part Number: GRM155C80J225KE95D; Manufacturer Lifecycle Status: IN PRODUCTION; Value: 2.2µF; Supplier: DigiKey; Supplier Part Number: 490-10012-1-ND; RoHS: Compliant; Category: Ceramic Capacitors; Stock: 4107485; Pricing: 1=0.1, 10=0.057, 50=0.039, 100=0.0336, 500=0.02462, 1000=0.02186, 2500=0.01896, 5000=0.01722 (USD); Case/Package: 0402; Case Code (Imperial): 0402; Case Code (Metric): 1005; Country of Origin: Japan, Mainland China, Philippines, Singapore, Thailand; Dielectric: X6S; Dielectric Material: Ceramic; Export Control Classification Number (ECCN) Code: EAR99; Height: 500µm; Harmonized Tariff Schedule (HTS) Code: 8532.24.00.20; Introduction Date: 2012-07-24; Length: 1mm; Lifecycle Status: Production; Material: Ceramic; Max Operating Temperature: 105°C; Min Operating Temperature: -55°C; Mounting Technology: Surface Mount; Number of Terminals: 2; Packaging: Tape & Reel (TR); REACH SVHC: Yes; Schedule B: 8532240020, 8532240020|8532240020|8532240020|8532240020|8532240020|8532240020|8532240020|8532240020|8532240020|8532240020|8532240020|8532240020|8532240020|8532240020|8532240020|8532240020|8532240020|8532240020|8532240020|8532240020|8532240020|8532240020|8532240020|85; Thickness: 500µm; Tolerance: 10%; Voltage Rating: 6.3V; Voltage Rating (DC): 6.3V; Width: 500µm; ComponentLink1URL: https://datasheet.octopart.com:443/GRM155C80J225KE95D-Murata-datasheet-149522920.pdf?src-supplier=Newark; ComponentLink1Description: https://datasheet.octopart.com:443/GRM155C80J225KE95D-Murata-datasheet-149522920.pdf?src-supplier=Newark; ComponentLink2URL: https://datasheet.octopart.com:443/GRM155C80J225KE95D-Murata-datasheet-179080476.pdf?src-supplier=Arrow.cn; ComponentLink2Description: https://datasheet.octopart.com:443/GRM155C80J225KE95D-Murata-datasheet-179080476.pdf?src-supplier=Arrow.cn; ComponentLink3URL: https://datasheet.octopart.com:443/GRM155C80J225KE95D-Murata-datasheet-165579666.pdf?src-supplier=TME; ComponentLink3Description: https://datasheet.octopart.com:443/GRM155C80J225KE95D-Murata-datasheet-165579666.pdf?src-supplier=TME; ComponentLink4URL: https://datasheet.octopart.com:443/GRM155C80J225KE95D-Murata-datasheet-141266224.pdf?src-supplier=Ciiva; ComponentLink4Description: https://datasheet.octopart.com:443/GRM155C80J225KE95D-Murata-datasheet-141266224.pdf?src-supplier=Ciiva; ComponentLink5URL: https://datasheet.octopart.com:443/GRM155C80J225KE95D-Murata-datasheet-140688039.pdf?src-supplier=Ciiva; ComponentLink5Description: https://datasheet.octopart.com:443/GRM155C80J225KE95D-Murata-datasheet-140688039.pdf?src-supplier=Ciiva; ComponentLink6URL: https://datasheet.octopart.com:443/GRM155C80J225KE95D-Murata-datasheet-138740490.pdf?src-supplier=Ciiva; ComponentLink6Description: https://datasheet.octopart.com:443/GRM155C80J225KE95D-Murata-datasheet-138740490.pdf?src-supplier=Ciiva; ComponentLink7URL: https://datasheet.octopart.com:443/GRM155C80J225KE95D-Murata-datasheet-32479577.pdf?src-supplier=Future+Electronics; ComponentLink7Description: https://datasheet.octopart.com:443/GRM155C80J225KE95D-Murata-datasheet-32479577.pdf?src-supplier=Future+Electronics; ComponentLink8URL: https://datasheet.octopart.com/GRM155C80J225KE95D-Murata-datasheet-12515295.pdf; ComponentLink8Description: https://datasheet.octopart.com/GRM155C80J225KE95D-Murata-datasheet-12515295.pdf; ComponentLink9URL: https://datasheet.octopart.com/GRM155C80J225KE95D-Murata-datasheet-12510076.pdf; ComponentLink9Description: https://datasheet.octopart.com/GRM155C80J225KE95D-Murata-datasheet-12510076.pdf; ComponentLink10URL: https://datasheet.octopart.com/GRM155C80J225KE95D-Murata-datasheet-11978611.pdf; ComponentLink10Description: https://datasheet.octopart.com/GRM155C80J225KE95D-Murata-datasheet-11978611.pdf; ComponentLink11URL: https://datasheet.octopart.com/GRM155C80J225KE95D-Murata-datasheet-10025737.pdf; ComponentLink11Description: https://datasheet.octopart.com/GRM155C80J225KE95D-Murata-datasheet-10025737.pdf; ComponentLink12URL: https://datasheet.octopart.com/GRM155C80J225KE95D-Murata-datasheet-8819587.pdf; ComponentLink12Description: https://datasheet.octopart.com/GRM155C80J225KE95D-Murata-datasheet-8819587.pdf; ComponentLink13URL: https://datasheet.octopart.com/GRM155C80J225KE95D-Murata-datasheet-15634835.pdf; ComponentLink13Description: https://datasheet.octopart.com/GRM155C80J225KE95D-Murata-datasheet-15634835.pdf; ComponentLink14URL: http://sigma.octopart.com:80/reach_statement/Murata-company-16.pdf?src-supplier=Compliance+Statements; ComponentLink14Description: http://sigma.octopart.com:80/reach_statement/Murata-company-16.pdf?src-supplier=Compliance+Statements; Supplier 1: DigiKey; Supplier Part Number 1: 490-10012-1-ND
footprint GRM155C80J225KE95D
pins: 1, 2